# Altium schematic symbol library LED-AMBER.Schlib: 1 symbol
Pins are listed as number, name and electrical type; pins without a type are passive.

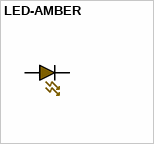
[diagram p0: symbol LED-AMBER]

## LED-AMBER
designator D?
pins: A, C